# EAGLE library part 219-06_S (library switch-dil)
DIP SWITCH
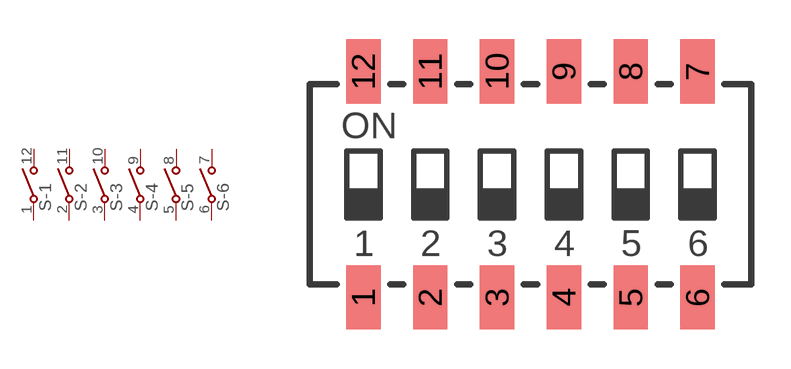
[diagram p80: symbol with the pads of 219-06; footprint 219-06]

Designator prefix S; gates -1=S -2=S -3=S -4=S -5=S -6=S

## 219-06_S  [219-06]
1  -1:1  pas
2  -2:1  pas
3  -3:1  pas
4  -4:1  pas
5  -5:1  pas
6  -6:1  pas
7  -6:2  pas
8  -5:2  pas
9  -4:2  pas
10  -3:2  pas
11  -2:2  pas
12  -1:2  pas

## Footprint 219-06 (pad centres in mm)
DIP SWITCH SMT 219 Series, CTS Electrocomponents
smd 1.3 x 2.44: 1 -6.35,-4.3; 2 -3.81,-4.3; 3 -1.27,-4.3; 4 1.27,-4.3; 5 3.81,-4.3; 6 6.35,-4.3; 7 6.35,4.3; 8 3.81,4.3; 9 1.27,4.3; 10 -1.27,4.3; 11 -3.81,4.3; 12 -6.35,4.3